# EAGLE library part MCP1252-33X50X/M (library CJ_Libz)
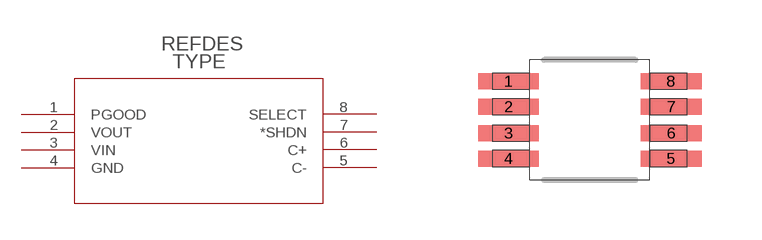
[diagram p4: symbol with the pads of MSOP8_MC; footprint MSOP8_MC]

Designator prefix -

## MCP1252-33X50X/M  [MSOP8_MC]
1  PGOOD  pas
2  VOUT  pas
3  VIN  pas
4  GND  pas
5  C-  pas
6  C+  pas
7  *SHDN  pas
8  SELECT  pas

## Footprint MSOP8_MC (pad centres in mm)
smd 1.524 x 0.4: 1 -2.032,0.965; 2 -2.032,0.33; 3 -2.032,-0.33; 4 -2.032,-0.965; 5 2.032,-0.965; 6 2.032,-0.33; 7 2.032,0.33; 8 2.032,0.965